# Altium footprint library PCB_Lib.PcbLib: 7 footprints
Each footprint in its own frame and in the unit in brackets; x right, y up, seen from the top. Pads: shape width x height; smd on the part's side, far side on the other; paste and mask are expansions set on the pad; w line width, h text height; cw(c..) or ccw(c..) is an arc to the next point about the centre after c.
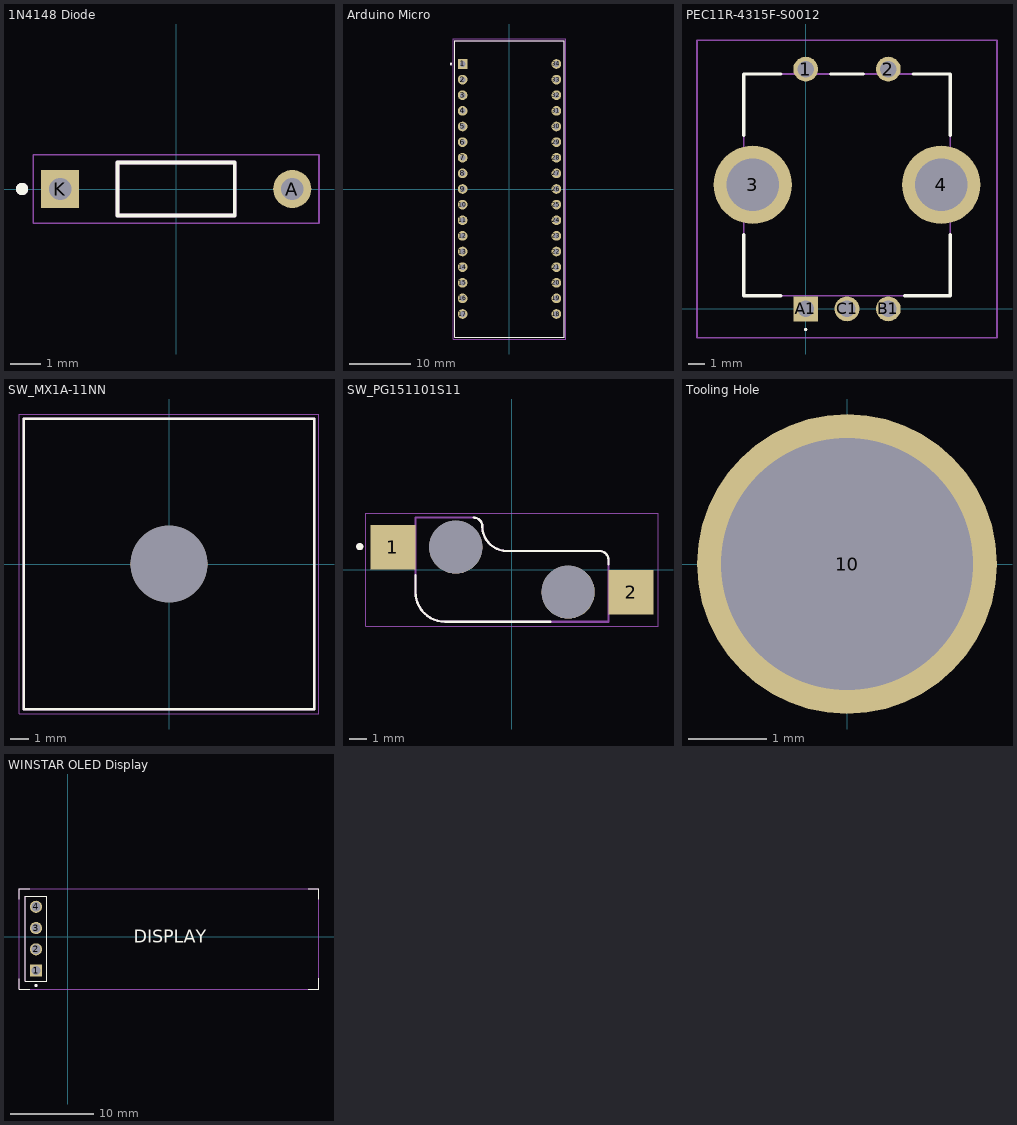
[diagram p0: the footprints below, top view; thin cyan lines are the x and y axes]

## 1N4148 Diode [mm]
height 1.91
pads (2):
  round 1.238 hole 0.73: A(3.768,0)
  rect 1.238x1.238 / inner round 1.238 / far side rect 1.238x1.238 hole 0.73: K(-3.768,0)
Top Overlay:
  circle w0.2: c-5,0 r0.1
  lines w0.127: -1.903,-0.86 1.903,-0.86 1.903,0.86 -1.903,0.86 -1.903,-0.86
Mechanical 13:
  circle w0.2: c-5,0 r0.1
  lines w0.127: -1.903,-0.86 1.903,-0.86 1.903,0.86 -1.903,0.86 -1.903,-0.86
Mechanical 15:
  lines w0.05: -4.637,-1.11 4.637,-1.11 4.637,1.11 -4.637,1.11 -4.637,-1.11
3D body "step_temp.STEP": height 1.91, standoff -22.92, extent -4.003,-0.955 4.003,0.955

## Arduino Micro [mil]
pads (34):
  rect 62x62 / inner round 62 / far side rect 62x62 hole 36: 1(-300,800)
  round 62 hole 36: 2(-300,700) 3(-300,600) 4(-300,500) 5(-300,400) 6(-300,300) 7(-300,200) 8(-300,100) 9(-300,0) 10(-300,-100) 11(-300,-200) 12(-300,-300) 13(-300,-400) 14(-300,-500) 15(-300,-600) 16(-300,-700) 17(-300,-800) 18(300,-800) 19(300,-700) 20(300,-600) 21(300,-500) 22(300,-400) 23(300,-300) 24(300,-200) 25(300,-100) 26(300,0) 27(300,100) 28(300,200) 29(300,300) 30(300,400) 31(300,500) 32(300,600) 33(300,700) 34(300,800)
Top Overlay:
  circle w7.87: c-375,800 r3.94
  lines w5: -350,-950 -350,950 350,950 350,-950 -350,-950
Mechanical 13:
  circle w7.87: c-375,800 r3.94
  lines w5: -350,-950 -350,950 350,950 350,-950 -350,-950
Mechanical 15:
  lines w1.97: -359.84,-959.84 -359.84,959.84 359.84,959.84 359.84,-959.84 -359.84,-959.84
3D body "step_temp.STEP": height 470.33, standoff -238.33, extent -350,-1001.57 350,950

## PEC11R-4315F-S0012 [mm]
pads (7):
  round 1.5 hole 1: 1(0,14.5) 2(5,14.5) B1(5,0) C1(2.5,0)
  round 4.74 hole 3.16: 3(-3.2,7.5) 4(8.2,7.5)
  rect 1.5x1.5 hole 1: A1(0,0)
Top Overlay:
  lines w0.1: 0,-1.3 cw(c0,-1.25) 0,-1.2 cw(c0,-1.25) 0,-1.3
  lines w0.2: -3.75,4.5 -3.75,0.8 -1.5,0.8 ; -3.75,10.5 -3.75,14.2 -1.5,14.2 ; 1.5,14.2 3.5,14.2 ; 6,0.8 8.75,0.8 8.75,4.5 ; 6.5,14.2 8.75,14.2 8.75,10.5
Mechanical 15:
  lines w0.1: -3.75,0.8 8.75,0.8 8.75,14.2 -3.75,14.2 -3.75,0.8
Mechanical 20:
  lines w0.1: -6.57,-1.75 11.57,-1.75 11.57,16.25 -6.57,16.25 -6.57,-1.75
3D body "PEC11L-4220F-S0015--3DModel-STEP-269445.STEP": height 24.5, standoff -3, extent -4.053,-0.127 9.144,14.623

## SW_MX1A-11NN [mil]
height 598.43
pads (1):
  round 161 hole 161 unplated: ""(0,0)
Top Overlay:
  lines w5: -305,-305 -305,305 305,305 305,-305 -305,-305
Mechanical 13:
  lines w5: -305,-305 -305,305 305,305 305,-305 -305,-305
Mechanical 15:
  lines w1.97: -314.84,-314.84 -314.84,314.84 314.84,314.84 314.84,-314.84 -314.84,-314.84
3D body "step_temp.STEP": height 600, standoff -130, extent -305,-318.78 305,318.78

## SW_PG151101S11 [mm]
height 1.95
pads (4):
  rect 2.55x2.5 smd: 1(-6.725,1.27) 2(6.725,-1.27)
  round 3 hole 3 unplated: ""(-3.175,1.27) ""(3.175,-1.27)
Top Overlay:
  circle w0.2: c-8.6,1.3 r0.1
  lines w0.127: -5.45,-0.3 -5.45,-1.27 ccw(c-3.775,-1.27) -3.775,-2.945 2.175,-2.945 ; -2.175,2.945 cw(c-2.175,2.445) -1.675,2.445 ccw(c-0.285,2.445) -0.285,1.055 4.95,1.055 cw(c4.95,0.555) 5.45,0.555 5.45,0.3
Mechanical 13:
  circle w0.2: c-8.6,1.3 r0.1
  lines w0.127: -5.45,-1.27 ccw(c-3.775,-1.27) -3.775,-2.945 5.45,-2.945 5.45,0.555 ccw(c4.95,0.555) 4.95,1.055 -0.285,1.055 cw(c-0.285,2.445) -1.675,2.445 ccw(c-2.175,2.445) -2.175,2.945 -5.45,2.945 -5.45,-1.27
Mechanical 15:
  lines w0.05: -8.25,-3.195 8.25,-3.195 8.25,3.195 -8.25,3.195 -8.25,-3.195
3D body "step_temp.STEP": height 1.85, standoff -1.25, extent -7.25,-2.945 7.25,2.945

## Tooling Hole [mm]
pads (1):
  round 3.81 hole 3.2: 10(0,0)

## WINSTAR OLED Display [mm] "WEA012832FWPP3N00000"
pads (4):
  rect 1.45x1.45 / inner round 1.45 / far side rect 1.45x1.45 hole 1.1: 1(-3.81,-4.064)
  round 1.45 hole 1.1: 2(-3.81,-1.524) 3(-3.81,1.016) 4(-3.81,3.556)
Top Overlay:
  circle w0.2: c-3.81,-5.842 r0.1
  lines w0.127: -5.842,4.445 -5.842,5.715 -4.572,5.715 ; -5.84,-6.279 -5.84,-5.009 ; -5.838,-6.285 -4.568,-6.285 ; 28.702,-6.292 29.972,-6.292 29.972,-4.953 ; 28.702,5.715 29.972,5.715 29.972,4.445 ; -5.08,-5.334 -2.54,-5.334 -2.54,4.826 -5.08,4.826 -5.08,-5.334
  text "DISPLAY" at 7.874,-0.762 h1.52
Mechanical 13:
  circle w0.2: c-3.81,-5.842 r0.1
  lines w0.127: -5.08,-5.334 -5.08,4.826 -2.54,4.826 -2.54,-5.334 -5.08,-5.334
Mechanical 15:
  lines w0.127: 29.958,-6.285 -5.842,-6.285 -5.842,5.715 29.958,5.715 ; 29.972,-6.285 29.972,5.715
3D body "step_temp.STEP": height 5.57, standoff -5.97, extent -5.08,-5.334 -2.54,4.826